# EAGLE library part AG9800M (library LAN-Edison)
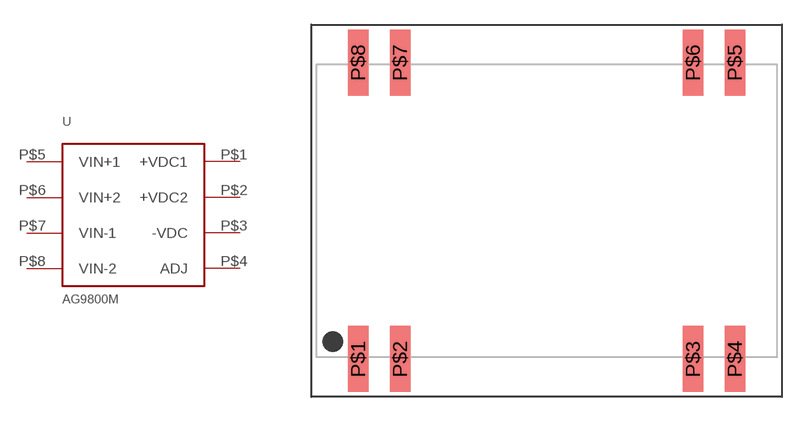
[diagram p0: symbol with the pads of AG9800M_SMT; footprint AG9800M_SMT]

Designator prefix U

## AG9800M  [AG9800M_SMT]
P$1  +VDC1  out
P$2  +VDC2  out
P$3  -VDC
P$4  ADJ
P$5  VIN+1  in
P$6  VIN+2  in
P$7  VIN-1  in
P$8  VIN-2  in

## Footprint AG9800M_SMT (pad centres in mm)
smd 1.25 x 4: P$1 -11.43,-9; P$2 -8.89,-9; P$3 8.89,-9; P$4 11.43,-9; P$5 11.43,9; P$6 8.89,9; P$7 -8.89,9; P$8 -11.43,9